# Altium footprint library Footprint.PcbLib: 97 footprints (part 2 of 7)
Each footprint in its own frame and in the unit in brackets; x right, y up, seen from the top. Pads: shape width x height; smd on the part's side, far side on the other; paste and mask are expansions set on the pad; w line width, h text height; cw(c..) or ccw(c..) is an arc to the next point about the centre after c.
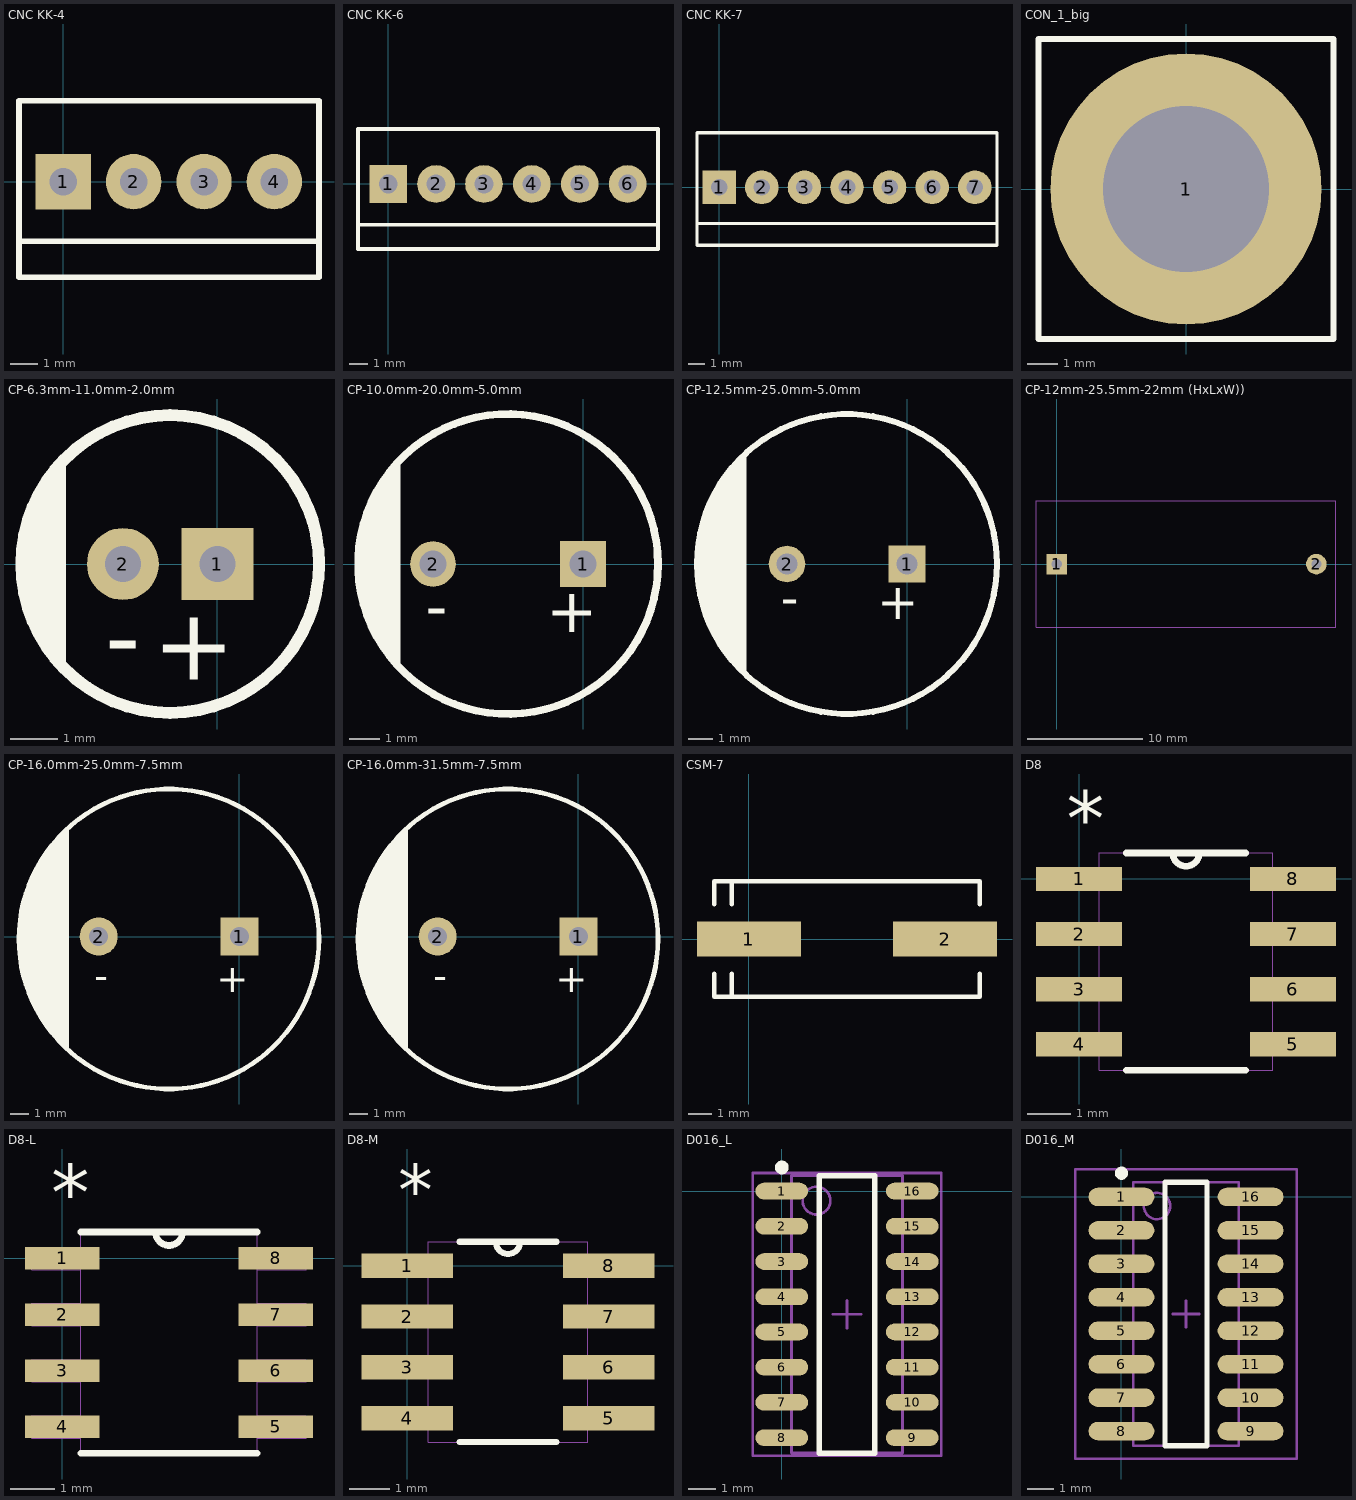
[diagram p1: the footprints below, top view; thin cyan lines are the x and y axes]

## CNC KK-4 [mm]
pads (4):
  rect 2x2 hole 0.991: 1(0,0)
  round 2 hole 0.991: 2(2.54,0) 3(5.08,0) 4(7.62,0)
Top Overlay:
  lines w0.203: -1.6,-2.159 9.23,-2.159 ; -1.6,-3.454 -1.6,2.921 9.23,2.921 9.23,-3.454 -1.6,-3.454
3D body: height 10.68, standoff -3.54, extent -1.245,-3.429 8.763,2.921

## CNC KK-6 [mm]
pads (6):
  rect 2x2 hole 0.991: 1(0,0)
  round 2 hole 0.991: 2(2.54,0) 3(5.08,0) 4(7.62,0) 5(10.16,0) 6(12.7,0)
Top Overlay:
  lines w0.203: -1.6,-2.159 14.31,-2.159 ; -1.6,-3.454 -1.6,2.921 14.31,2.921 14.31,-3.454 -1.6,-3.454
3D body: height 10.68, standoff -3.54, extent -1.168,-3.327 13.919,3.023

## CNC KK-7 [mm]
pads (7):
  rect 2x2 hole 0.991: 1(0,0)
  round 2 hole 0.991: 2(2.54,0) 3(5.08,0) 4(7.62,0) 5(10.16,0) 6(12.7,0) 7(15.24,0)
Top Overlay:
  lines w0.203: -1.321,-2.159 16.51,-2.159 ; -1.321,-3.454 16.561,-3.454 16.561,3.251 -1.321,3.251 -1.321,-3.454
3D body: height 10.68, standoff -3.54, extent -1.194,-3.251 16.434,3.099

## CON_1_big [mm] "1 WAY CONNECTOR - 5mm Hole Size"
height 5.969
pads (1):
  round 9 hole 5.5: 1(0,0)
Top Overlay:
  lines w0.2: -4.902,-4.978 4.902,-4.978 4.902,4.978 -4.902,4.978 -4.902,-4.978

## CP-6.3mm-11.0mm-2.0mm [mil] "Capacitor Electrolytic Radial - 6.3 x 11 mm - Pin Spacing 2.0 mm"
height 433.07
pads (2):
  rect 60x60 hole 30: 1(0,0)
  round 60 hole 30: 2(-78.74,0)
Top Overlay:
  circle w10: c-39.37,0 r124.02
  region: -131.38,82 -146.37,67.01 -146.37,57 -159.37,44 -159.37,23 -165.37,17 -165.37,-18 -158.37,-25 -158.37,-43 -148.37,-53 -148.37,-65 -131.38,-81.99
  lines w10: -131.38,-82 -131.38,82
  text "+" at 15,-45 h60
  text "-" at -63.74,-45 h60
3D body: height 453.76, standoff -128.81, extent -165.02,-125 85.02,125.03

## CP-10.0mm-20.0mm-5.0mm [mil] "Capacitor Electrolytic Radial - 10 x 20 mm - Pin Spacing 5.0 mm"
height 787.4
pads (2):
  rect 60x60 hole 35: 1(0,0)
  round 60 hole 35: 2(-196.85,0)
Top Overlay:
  circle w10: c-98.43,0 r196.85
  region: -244.53,-130 -244.53,130 -264.53,110 -264.53,100 -279.53,85 -279.53,65 -289.53,55 -289.53,25 -294.53,20 -294.53,-40 -284.53,-50 -284.53,-75 -269.53,-90 -269.53,-105
  lines w10: -244.53,-130 -244.53,130
  text "-" at -177.17,-40 h59.06
  text "+" at 19.68,-40 h59.06
3D body: height 807.87, standoff -106.3, extent -298,-200.49 102,198.49

## CP-12.5mm-25.0mm-5.0mm [mil] "Capacitor Electrolytic Radial - 12.5 x 25 mm - Pin Spacing 5.0 mm"
height 984.25
pads (2):
  rect 60x60 hole 35: 1(0,0)
  round 60 hole 35: 2(-196.85,0)
Top Overlay:
  circle w10: c-98.43,0 r246.06
  region: -268.43,176 -268.43,-176 -304.43,-140 -304.43,-127 -323.43,-108 -323.43,-90 -336.43,-77 -336.43,-41 -344.43,-33 -344.43,44 -334.43,54 -334.43,80 -321.43,93 -321.43,112 -295.43,138 -295.43,151 -270.43,176
  lines w10: -268.43,-176 -268.43,176
  text "-" at -177.17,-40 h59.06
  text "+" at 19.68,-40 h59.06
3D body: height 1000, standoff -1131.89, extent -358,-261 161.69,258.69

## CP-12mm-25.5mm-22mm (HxLxW)) [mil] "Film Capacitors - 12 x 25 mm - Pin Spacing 22.5 mm"
pads (2):
  rect 70x70 hole 35: 1(0,0)
  round 70 hole 35: 2(885.83,0)
Mechanical 1:
  lines w4: -70.93,-216.27 -70.93,216.8 952.69,216.8 952.69,-216.27 -70.93,-216.27
3D body: height 0, standoff -78.74, extent 868.64,-17.29 903.15,17.29
3D body: height 0, standoff -78.74, extent -17.19,-17.29 17.32,17.29
3D body: height 885.83, standoff 0, extent -70.93,-216.27 952.69,216.8

## CP-16.0mm-25.0mm-7.5mm [mil] "Capacitor Electrolytic Radial - 16 x 25 mm - Pin Spacing 7.5 mm"
height 984.25
pads (2):
  rect 80x80 hole 40: 1(0,0)
  round 80 hole 40: 2(-295.28,0)
Top Overlay:
  circle w10: c-147.64,-5 r314.96
  region: -362.64,224 -362.64,-234 -405.64,-191 -405.64,-177 -429.64,-153 -429.64,-134 -445.64,-118 -445.64,-89 -458.64,-76 -458.64,68 -444.64,82 -444.64,110 -427.64,127 -427.64,147 -399.64,175 -399.64,189 -364.64,224
  lines w10: -362.64,-234 -362.64,224
  text "-" at -275.59,-66 h59.06
  text "+" at 19.68,-66 h59.06
3D body: height 1027.56, standoff -110.24, extent -472.03,-324.94 176.9,323.13

## CP-16.0mm-31.5mm-7.5mm [mil] "Capacitor Electrolytic Radial - 16 x 31.5 mm - Pin Spacing 7.5 mm"
height 1240.16
pads (2):
  rect 80x80 hole 40: 1(0,0)
  round 80 hole 40: 2(-295.28,0)
Top Overlay:
  circle w10: c-147.64,-5 r314.96
  region: -362.64,224 -362.64,-234 -405.64,-191 -405.64,-177 -429.64,-153 -429.64,-134 -445.64,-118 -445.64,-89 -458.64,-76 -458.64,68 -444.64,82 -444.64,110 -427.64,127 -427.64,147 -399.64,175 -399.64,189 -364.64,224
  lines w10: -362.64,-234 -362.64,224
  text "+" at 19.68,-66 h59.06
  text "-" at -275.59,-66 h59.06

## CSM-7 [mm] "Quartz Crystal, SM; 2 Leads; Body 11.4 x 4.8 x 5 mm (LxWxH)"
height 5
pads (2):
  rect 4.5x1.5 smd: 1(0,0) 2(8.5,0)
Top Overlay:
  lines w0.2: -1.5,-1.5 -1.5,-2.5 10,-2.5 10,-1.5 ; -1.5,1.5 -1.5,2.5 10,2.5 10,1.5 ; -0.75,-2.5 -0.75,-1.5 ; -0.75,1.5 -0.75,2.5
3D body: height 4.5, standoff -0.05, extent -2.175,-2.5 10.625,2.5

## D8 [mil]
pads (8):
  rect 78x22 smd: 1(0,0) 2(0,-50) 3(0,-100) 4(0,-150) 5(194,-150) 6(194,-100) 7(194,-50) 8(194,0)
Top Overlay:
  lines w6: 42.92,-173.5 151.08,-173.5 ; 42.92,23.5 151.08,23.5 ; 85,23.5 ccw(c97,23.5) 109,23.5
  text "*" at -11,30 h50
Mechanical 1:
  lines w0: 85,23.5 ccw(c97,23.5) 109,23.5 ; -25,-160 18.5,-160 18.5,-140 -25,-140 -25,-160 ; -25,-110 18.5,-110 18.5,-90 -25,-90 -25,-110 ; -25,-60 18.5,-60 18.5,-40 -25,-40 -25,-60 ; -25,-10 18.5,-10 18.5,10 -25,10 -25,-10 ; 18.5,-173.5 18.5,23.5 175.5,23.5 175.5,-173.5 18.5,-173.5 ; 175.5,-160 219,-160 219,-140 175.5,-140 175.5,-160 ; 175.5,-110 219,-110 219,-90 175.5,-90 175.5,-110 ; 175.5,-60 219,-60 219,-40 175.5,-40 175.5,-60 ; 175.5,-10 219,-10 219,10 175.5,10 175.5,-10
3D body: height 74.02, standoff 0, extent -22.21,-173.44 216.2,21.44

## D8-L [mil]
pads (8):
  rect 66x20 smd: 1(0,0) 2(0,-50) 3(0,-100) 4(0,-150) 5(190,-150) 6(190,-100) 7(190,-50) 8(190,0)
Top Overlay:
  lines w6: 16.5,-173.5 173.5,-173.5 ; 16.5,23.5 173.5,23.5 ; 83,23.5 ccw(c95,23.5) 107,23.5
  text "*" at -10,34 h50
Mechanical 1:
  lines w0: 83,23.5 ccw(c95,23.5) 107,23.5 ; -27,-160 16.5,-160 16.5,-140 -27,-140 -27,-160 ; -27,-110 16.5,-110 16.5,-90 -27,-90 -27,-110 ; -27,-60 16.5,-60 16.5,-40 -27,-40 -27,-60 ; -27,-10 16.5,-10 16.5,10 -27,10 -27,-10 ; 16.5,-173.5 16.5,23.5 173.5,23.5 173.5,-173.5 16.5,-173.5 ; 173.5,-160 217,-160 217,-140 173.5,-140 173.5,-160 ; 173.5,-110 217,-110 217,-90 173.5,-90 173.5,-110 ; 173.5,-60 217,-60 217,-40 173.5,-40 173.5,-60 ; 173.5,-10 217,-10 217,10 173.5,10 173.5,-10

## D8-M [mil]
pads (8):
  rect 90x24 smd: 1(0,0) 2(0,-50) 3(0,-100) 4(0,-150) 5(198,-150) 6(198,-100) 7(198,-50) 8(198,0)
Top Overlay:
  lines w6: 51.27,-173.5 146.73,-173.5 ; 51.27,23.5 146.73,23.5 ; 87,23.5 ccw(c99,23.5) 111,23.5
  text "*" at -9,50 h50
Mechanical 1:
  lines w0: 87,23.5 ccw(c99,23.5) 111,23.5 ; -23,-160 20.5,-160 20.5,-140 -23,-140 -23,-160 ; -23,-110 20.5,-110 20.5,-90 -23,-90 -23,-110 ; -23,-60 20.5,-60 20.5,-40 -23,-40 -23,-60 ; -23,-10 20.5,-10 20.5,10 -23,10 -23,-10 ; 20.5,-173.5 20.5,23.5 177.5,23.5 177.5,-173.5 20.5,-173.5 ; 177.5,-160 221,-160 221,-140 177.5,-140 177.5,-160 ; 177.5,-110 221,-110 221,-90 177.5,-90 177.5,-110 ; 177.5,-60 221,-60 221,-40 177.5,-40 177.5,-60 ; 177.5,-10 221,-10 221,10 177.5,10 177.5,-10

## D016_L [mm] "SOIC, 16-Leads, Body 9.9x3.9mm, Pitch 1.27mm, IPC High Density"
height 1.75
pads (16):
  oval 1.9x0.6 smd: 1(0,0) 2(0,-1.27) 3(0,-2.54) 4(0,-3.81) 5(0,-5.08) 6(0,-6.35) 7(0,-7.62) 8(0,-8.89) 9(4.7,-8.89) 10(4.7,-7.62) 11(4.7,-6.35) 12(4.7,-5.08) 13(4.7,-3.81) 14(4.7,-2.54) 15(4.7,-1.27) 16(4.7,0)
Top Overlay:
  circle w0.25: c0,0.85 r0.125
  lines w0.2: 1.35,-9.445 3.35,-9.445 3.35,0.555 1.35,0.555 1.35,-9.445
Mechanical 13:
  circle w0.1: c1.25,-0.345 r0.5
  lines w0.1: 0.35,-9.445 4.35,-9.445 4.35,0.555 0.35,0.555 0.35,-9.445
Mechanical 15:
  lines w0.1: 1.85,-4.445 2.85,-4.445 ; 2.35,-4.945 2.35,-3.945 ; -1.05,-9.545 5.75,-9.545 5.75,0.655 -1.05,0.655 -1.05,-9.545
3D body: height 1.75, standoff 0, extent 0.35,-9.445 4.35,0.555

## D016_M [mm] "SOIC, 16-Leads, Body 9.9x3.9mm, Pitch 1.27mm, IPC Low Density"
height 1.75
pads (16):
  oval 2.5x0.7 smd: 1(0,0) 2(0,-1.27) 3(0,-2.54) 4(0,-3.81) 5(0,-5.08) 6(0,-6.35) 7(0,-7.62) 8(0,-8.89) 9(4.9,-8.89) 10(4.9,-7.62) 11(4.9,-6.35) 12(4.9,-5.08) 13(4.9,-3.81) 14(4.9,-2.54) 15(4.9,-1.27) 16(4.9,0)
Top Overlay:
  circle w0.25: c0,0.9 r0.125
  lines w0.2: 1.65,-9.445 1.65,0.555 3.25,0.555 3.25,-9.445 1.65,-9.445
Mechanical 13:
  circle w0.1: c1.35,-0.345 r0.5
  lines w0.1: 0.45,-9.445 0.45,0.555 4.45,0.555 4.45,-9.445 0.45,-9.445
Mechanical 15:
  lines w0.1: 1.95,-4.445 2.95,-4.445 ; 2.45,-4.945 2.45,-3.945 ; -1.75,-9.945 -1.75,1.055 6.65,1.055 6.65,-9.945 -1.75,-9.945
3D body: height 1.75, standoff 0, extent 0.45,-9.445 4.45,0.555